# Altium schematic symbol library Converter.SchLib: 7 symbols
Pins are listed as number, name and electrical type; pins without a type are passive.

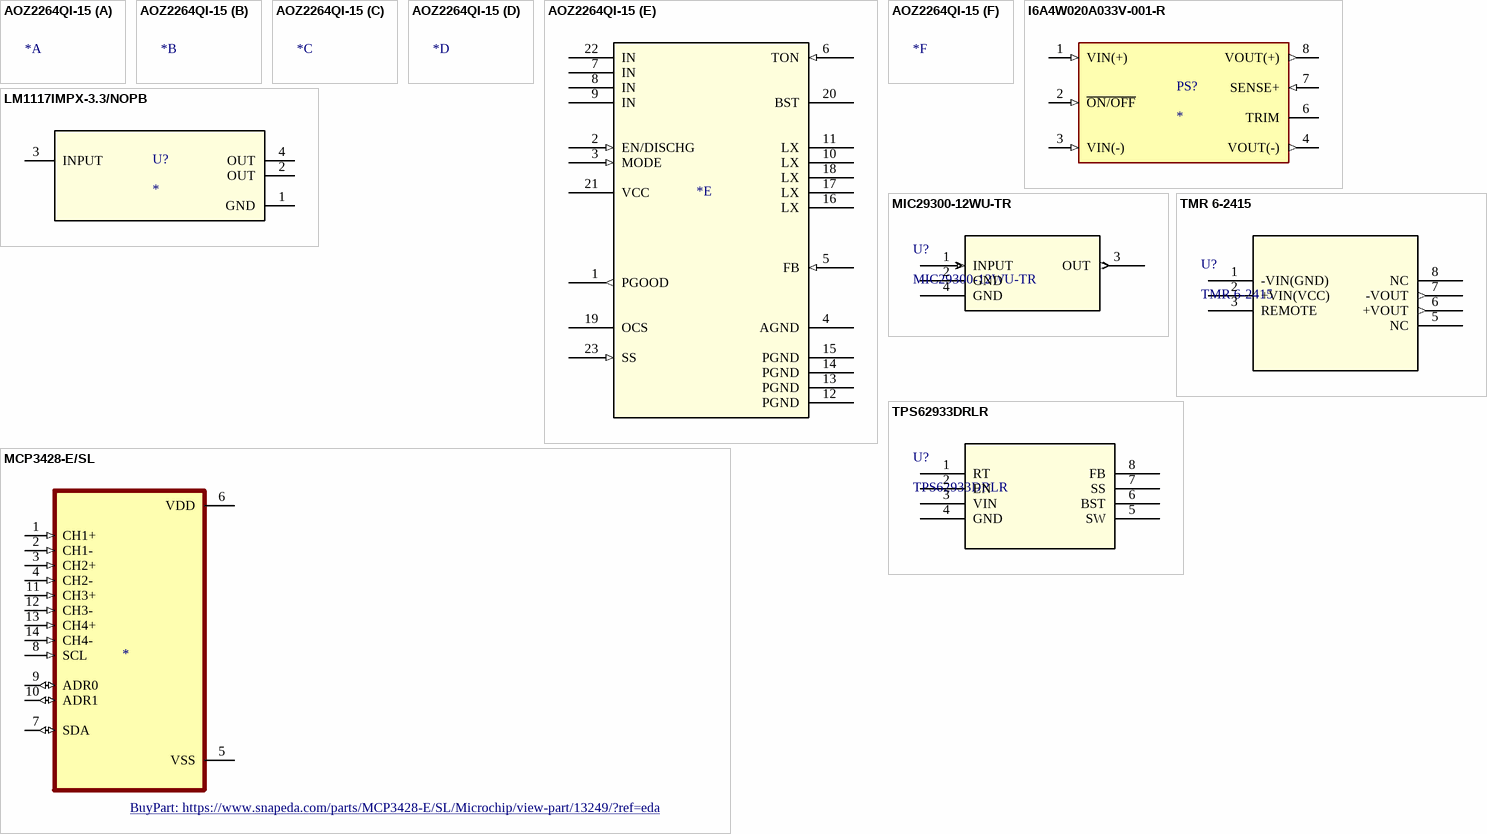
[diagram p0: symbols AOZ2264QI-15 to TPS62933DRLR]

## AOZ2264QI-15
designator *  (value not drawn)
15A COT EZBuck Regulator (Auto Restart), QFN4x4B-23L, RoHS; Manufacturer: Alpha & Omega Semiconductor; Manufacturer Part Number: AOZ2264QI-15; Supplier 1: Digi-Key; Supplier Part Number 1: 785-1897-1-ND; RoHS: Yes; Category: Voltage Regulators - Switching; Stock 1: 26930; Pricing 1: 1=1.71000, 10=1.53700, 25=1.44960, 100=1.23500, 250=1.15964, 500=1.01468, 1000=0.84074 (USD); RoHS Compliant: Yes; ComponentLink1URL: http://www.aosmd.com/res/data_sheets/AOZ2264QI-10.pdf?src-supplier=Digi-Key; ComponentLink1Description: http://www.aosmd.com/res/data_sheets/AOZ2264QI-10.pdf?src-supplier=Digi-Key
footprint QFN4X4B_23L_EP2_S_AOS
part E pins: 1 PGOOD (out), 2 EN/DISCHG (in), 3 MODE (in), 4 AGND, 5 FB (in), 6 TON (in), 7 IN (power), 8 IN (power), 9 IN (power), 10 LX, 11 LX, 12 PGND, 13 PGND, 14 PGND, 15 PGND, 16 LX, 17 LX, 18 LX, 19 OCS, 20 BST (power), 21 VCC (power), 22 IN (power), 23 SS (in)

## I6A4W020A033V-001-R
designator PS?
Non-Isolated PoL Module DC DC Converter 1 Output 3.3 ~ 15V 20A 9V - 53V Input; MP: I6A4W020A033V-001-R; MF: TDK-Lambda Americas; Availability: In Stock; Price: None; Package: DIP-8 TDK-Lambda; Value: *; SnapEDA_Link: https://www.snapeda.com/parts/I6A4W020A033V-001-R/TDK-Lambda%20Americas%20Inc./view-part/1737324/?ref=snap; Check_prices: https://www.snapeda.com/parts/I6A4W020A033V-001-R/TDK-Lambda%20Americas%20Inc./view-part/1737324/?ref=eda; Purchase-URL: https://pricing.snapeda.com/search/part/I6A4W020A033V-001-R/?ref=eda
footprint CONV_I6A4W020A033V-001-R
pins: 1 VIN(+) (in), 2 ~{ON/OFF} (in), 3 VIN(-) (in), 4 VOUT(-) (out), 6 TRIM, 7 SENSE+ (in), 8 VOUT(+) (out)

## LM1117IMPX-3.3/NOPB
designator U?
IC REG LIN 3.3V 800MA SOT223-4; PartNumber: LM1117IMP-3.3/NOPB; Manufacturer: Texas Instruments; Vin (Max): 15V; Supplier 1: Digi-Key; Supplier Part Number 1: LM1117IMPX-3.3/NOPBCT-ND; Vout (Min/Fixed): 3.3V; Amp Out: 800mA; Package: SOT-223-4; Created By: Dylan T
footprint SOT-223-4
pins: 1 GND (power), 2 OUT (power), 3 INPUT (power), 4 OUT (power)

## MCP3428-E/SL
designator ?
16 Bit Analog to Digital Converter 4 Input 1 Sigma-Delta 14-SOIC; MF: Microchip; MP: MCP3428-E/SL; Package: SOIC-14 Microchip; SnapEDA_Link: https://www.snapeda.com/parts/MCP3428-E/SL/Microchip/view-part/13249/?ref=snap; Price: None; Availability: Unavailable; Value: *; BuyPart: https://www.snapeda.com/parts/MCP3428-E/SL/Microchip/view-part/13249/?ref=eda
footprint SOIC127P600X175-14N
pins: 1 CH1+ (in), 2 CH1- (in), 3 CH2+ (in), 4 CH2- (in), 5 VSS (power), 6 VDD (power), 7 SDA (io), 8 SCL (in), 9 ADR0 (io), 10 ADR1 (io), 11 CH3+ (in), 12 CH3- (in), 13 CH4+ (in), 14 CH4- (in)

## MIC29300-12WU-TR
designator U?
Linear Voltage Regulator IC Positive Fixed 1 Output 3A TO-263-3; Mfr_Name: Microchip; Copyright: Copyright (C) 2022 Ultra Librarian. All rights reserved.; Manufacturer_Part_Number: MIC29300-12WU-TR; RefDes: RefDes; Type: DEV; Supplier 1: Arrow Electronics; Supplier Part Number 1: MIC29300-12WU-TR
footprint TO-263-3_MCH
pins: 1 INPUT (in), 2 GND (power), 3 OUT (out), 4 GND (power)

## TMR 6-2415
designator U?
No Description Available; Mfr_Name: Traco Power; Copyright: Copyright (C) 2022 Ultra Librarian. All rights reserved.; Manufacturer_Part_Number: TMR 6-2415; RefDes: RefDes; Type: DEV; Supplier 1: Digi-Key; Supplier Part Number 1: 1951-1797-ND
footprint TMR 6_TRP
pins: 1 -VIN(GND) (power), 2 +VIN(VCC) (power), 3 REMOTE, 5 NC, 6 +VOUT (out), 7 -VOUT (out), 8 NC

## TPS62933DRLR
designator U?
Buck Switching Regulator IC Positive Adjustable 0.8V 1 Output 3A SOT-583; Mfr_Name: Texas Instruments; Copyright: Copyright (C) 2023 Ultra Librarian. All rights reserved.; Manufacturer_Part_Number: TPS62933DRLR; RefDes: RefDes; Type: DEV
footprint SOT-5X3-8_DRL_TEX
pins: 1 RT, 2 EN, 3 VIN (power), 4 GND (power), 5 SW (power), 6 BST (power), 7 SS, 8 FB